# Altium schematic symbol library Flash.SchLib: 7 symbols
Pins are listed as number, name and electrical type; pins without a type are passive.

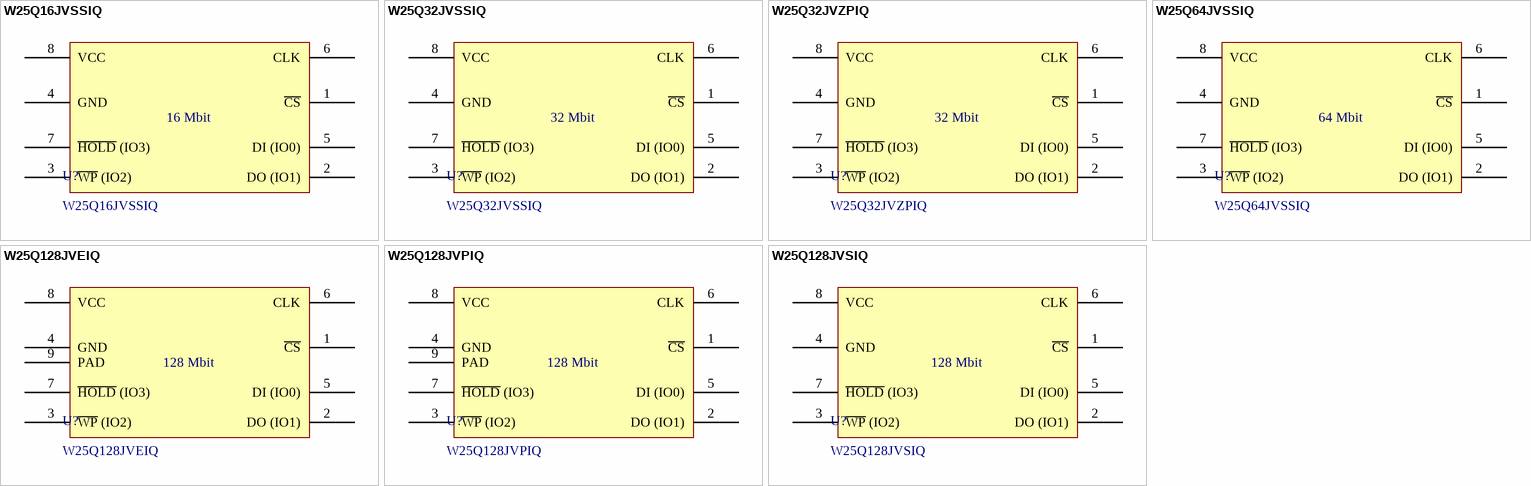
[diagram p0: symbols W25Q16JVSSIQ to W25Q128JVSIQ]

## W25Q16JVSSIQ
designator U?
16Mbit 2.7V~3.6V 133MHz SPI SOIC-8-EP(5x6) Memory (ICs) RoHS; Manufacturer: Winbond Electronics; Active Read Current - Max: 25 mA; Interface Type: SPI - Quad I/O, QPI; Data Bus Width: 8 bit; Supply Voltage - Max: 3.6 V; Supply Voltage - Min: 2.7 V; Organization: 2 M x 8; Memory Size: 16 Mbit; Maximum Clock Frequency: 133 MHz; Supplier 1 URL: https://www.mouser.vn/ProductDetail/Winbond/W25Q16JVSSIQ?qs=qSfuJ%252Bfl%2Fd46L%2F1QrQC%2Fog%3D%3D; Supplier 2 URL: https://www.digikey.com/en/products/detail/winbond-electronics/w25q16jvssiq/6193769; Supplier 3 URL: N/A; Value: W25Q16JVSSIQ; Supplier 1: Mouser; Supplier 1 Part Number: 454-W25Q16JVSSIQ; Supplier 2: Digi-Key; Supplier 2 Part Number: W25Q16JVSSIQ-ND; Supplier 3: thegioiic; Supplier 3 Part Number: N/A; Manufacturer Part Number: W25Q16JVSSIQ; Mount: SMD/SMT; Operating Temperature Max: + 85 C; Operating Temperature Min: - 40 C; Package / Case: SOIC-8; Packaging: Tape and Reel; ComponentLink1Description: Datasheet; ComponentLink1URL: https://www.lcsc.com/datasheet/C131025.pdf; LCSC Part #: C131025
footprint W25QXXJVSIQ-SOIC-8 (SOIC, 8-Leads, Body 5.28x5.28mm, Pitch 1.27mm, IPC Medium Density)
pins: 1 ~{CS}, 2 DO (IO1), 3 ~{WP} (IO2), 4 GND (power), 5 DI (IO0), 6 CLK, 7 ~{HOLD} (IO3), 8 VCC (power)

## W25Q32JVSSIQ
designator U?
32Mbit 2.7V~3.6V 133MHz SPI SOIC-8-EP(5x6) Memory (ICs) RoHS; Manufacturer: Winbond Electronics; Active Read Current - Max: 25 mA; Interface Type: SPI - Quad I/O, QPI; Data Bus Width: 8 bit; Supply Voltage - Max: 3.6 V; Supply Voltage - Min: 2.7 V; Organization: 4 M x 8; Memory Size: 32 Mbit; Maximum Clock Frequency: 133 MHz; Supplier 1 URL: https://www.mouser.vn/ProductDetail/Winbond/W25Q32JVSSIQ?qs=qSfuJ%252Bfl%2Fd4PGZSN0WxfCA%3D%3D; Supplier 2 URL: https://www.digikey.com/en/products/detail/winbond-electronics/w25q32jvssiq/5803981; Supplier 3 URL: N/A; Value: W25Q32JVSSIQ; Supplier 1: Mouser; Supplier 1 Part Number: 454-W25Q32JVSSIQTR; Supplier 2: Digi-Key; Supplier 2 Part Number: W25Q32JVSSIQ-ND; Supplier 3: thegioiic; Supplier 3 Part Number: N/A; Manufacturer Part Number: W25Q32JVSSIQ; Mount: SMD/SMT; Operating Temperature Max: + 85 C; Operating Temperature Min: - 40 C; Package / Case: SOIC-8; Packaging: Tape and Reel; ComponentLink1Description: Datasheet; ComponentLink1URL: https://www.lcsc.com/datasheet/C179173.pdf; LCSC Part #: C179173
footprint W25QXXJVSIQ-SOIC-8 (SOIC, 8-Leads, Body 5.28x5.28mm, Pitch 1.27mm, IPC Medium Density)
pins: 1 ~{CS}, 2 DO (IO1), 3 ~{WP} (IO2), 4 GND (power), 5 DI (IO0), 6 CLK, 7 ~{HOLD} (IO3), 8 VCC (power)

## W25Q32JVZPIQ
designator U?
32Mbit 2.7V~3.6V 133MHz SPI WSON-8-EP(5x6) Memory (ICs) RoHS; Manufacturer: Winbond Electronics; Active Read Current - Max: 25 mA; Interface Type: SPI - Quad I/O, QPI; Data Bus Width: 8 bit; Supply Voltage - Max: 3.6 V; Supply Voltage - Min: 2.7 V; Organization: 4 M x 8; Memory Size: 32 Mbit; Maximum Clock Frequency: 133 MHz; Supplier 1 URL: https://www.mouser.vn/ProductDetail/Winbond/W25Q32JVZPIQ?qs=qSfuJ%252Bfl%2Fd5Ca0jgzBVqQA%3D%3D; Supplier 2 URL: https://www.digikey.com/en/products/detail/winbond-electronics/w25q32jvzpiq/6167525; Supplier 3 URL: N/A; Value: W25Q32JVZPIQ; Supplier 1: Mouser; Supplier 1 Part Number: 454-W25Q32JVZPIQ; Supplier 2: Digi-Key; Supplier 2 Part Number: W25Q32JVZPIQ-ND; Supplier 3: thegioiic; Supplier 3 Part Number: N/A; Manufacturer Part Number: W25Q32JVZPIQ; Mount: SMD/SMT; Operating Temperature Max: + 85 C; Operating Temperature Min: - 40 C; Package / Case: WSON-8; Packaging: Tape and Reel; ComponentLink1Description: Datasheet; ComponentLink1URL: https://www.lcsc.com/datasheet/C571260.pdf; LCSC Part #: C571260
footprint W25QXXJVPIQ-WSON-8 (SON, 8-Leads, Body 6.00x8.00mm, Pitch 1.27mm, Thermal Pad 4.30x3.40mm, IPC Medium Density)
pins: 1 ~{CS}, 2 DO (IO1), 3 ~{WP} (IO2), 4 GND (power), 5 DI (IO0), 6 CLK, 7 ~{HOLD} (IO3), 8 VCC (power)

## W25Q64JVSSIQ
designator U?
64Mbit 2.7V~3.6V 133MHz SPI SOIC-8-EP(5x6) Memory (ICs) RoHS; Manufacturer: Winbond Electronics; Active Read Current - Max: 25 mA; Interface Type: SPI - Quad I/O, QPI; Data Bus Width: 8 bit; Supply Voltage - Max: 3.6 V; Supply Voltage - Min: 2.7 V; Organization: 8 M x 8; Memory Size: 64 Mbit; Maximum Clock Frequency: 133 MHz; Supplier 1 URL: https://www.mouser.vn/ProductDetail/Winbond/W25Q64JVSSIQ?qs=qSfuJ%252Bfl%2Fd4DecxlHDmB8w%3D%3D; Supplier 2 URL: https://www.digikey.com/en/products/detail/winbond-electronics/w25q64jvssiq/5803992; Supplier 3 URL: N/A; Value: W25Q64JVSSIQ; Supplier 1: Mouser; Supplier 1 Part Number: 454-W25Q64JVSIQ; Supplier 2: Digi-Key; Supplier 2 Part Number: W25Q64JVSSIQ-ND; Supplier 3: thegioiic; Supplier 3 Part Number: N/A; Manufacturer Part Number: W25Q64JVSSIQ; Mount: SMD/SMT; Operating Temperature Max: + 85 C; Operating Temperature Min: - 40 C; Package / Case: SOIC-8; Packaging: Tape and Reel; ComponentLink1Description: Datasheet; ComponentLink1URL: https://www.lcsc.com/datasheet/C179171.pdf; LCSC Part #: C179171
footprint W25QXXJVSIQ-SOIC-8 (SOIC, 8-Leads, Body 5.28x5.28mm, Pitch 1.27mm, IPC Medium Density)
pins: 1 ~{CS}, 2 DO (IO1), 3 ~{WP} (IO2), 4 GND (power), 5 DI (IO0), 6 CLK, 7 ~{HOLD} (IO3), 8 VCC (power)

## W25Q128JVEIQ
designator U?
128Mbit 2.7V~3.6V 133MHz SPI WSON-8-EP(6x8) Memory (ICs) RoHS; Manufacturer: Winbond Electronics; Active Read Current - Max: 25 mA; Interface Type: SPI - Quad I/O, QPI; Data Bus Width: 8 bit; Supply Voltage - Max: 3.6 V; Supply Voltage - Min: 2.7 V; Organization: 16 M x 8; Memory Size: 128 Mbit; Maximum Clock Frequency: 133 MHz; Supplier 1 URL: https://www.mouser.com/ProductDetail/Winbond/W25Q128JVEIQ?qs=qSfuJ%252Bfl%2Fd667JrLNi7hwg%3D%3D; Supplier 2 URL: https://www.digikey.com/en/products/detail/winbond-electronics/w25q128jveiq/6819667; Supplier 3 URL: N/A; Value: W25Q128JVEIQ; Supplier 1: Mouser; Supplier 1 Part Number: 454-W25Q128JVEIQ; Supplier 2: Digi-Key; Supplier 2 Part Number: 256-W25Q128JVEIQ-TUBE-ND; Supplier 3: thegioiic; Supplier 3 Part Number: N/A; Manufacturer Part Number: W25Q128JVEIQ; Mount: SMD/SMT; Operating Temperature Max: + 85 C; Operating Temperature Min: - 40 C; Package / Case: WSON-8 (6x8); Packaging: Tape and Reel; ComponentLink1Description: Datasheet; ComponentLink1URL: https://www.lcsc.com/datasheet/C2456297.pdf; LCSC Part #: C2456297
footprint W25QXXJVEIQ-WSON-8 (SON, 8-Leads, Body 6.00x8.00mm, Pitch 1.27mm, Thermal Pad 4.30x3.40mm, IPC Medium Density)
pins: 1 ~{CS}, 2 DO (IO1), 3 ~{WP} (IO2), 4 GND (power), 5 DI (IO0), 6 CLK, 7 ~{HOLD} (IO3), 8 VCC (power), 9 PAD (power)

## W25Q128JVPIQ
designator U?
128Mbit 2.7V~3.6V 133MHz SPI WSON-8-EP(5x6) Memory (ICs) RoHS; Manufacturer: Winbond Electronics; Active Read Current - Max: 25 mA; Interface Type: SPI - Quad I/O, QPI; Data Bus Width: 8 bit; Supply Voltage - Max: 3.6 V; Supply Voltage - Min: 2.7 V; Organization: 16 M x 8; Memory Size: 128 Mbit; Maximum Clock Frequency: 133 MHz; Supplier 1 URL: https://www.mouser.vn/ProductDetail/Winbond/W25Q128JVPIQ?qs=qSfuJ%252Bfl%2Fd676hAD%252B1JSfw%3D%3D; Supplier 2 URL: https://www.digikey.com/en/products/detail/winbond-electronics/w25q128jvpiq/6819668; Supplier 3 URL: N/A; Value: W25Q128JVPIQ; Supplier 1: Mouser; Supplier 1 Part Number: 454-W25Q128JVPIQ; Supplier 2: Digi-Key; Supplier 2 Part Number: W25Q128JVPIQ-ND; Supplier 3: thegioiic; Supplier 3 Part Number: N/A; Manufacturer Part Number: W25Q128JVPIQ; Mount: SMD/SMT; Operating Temperature Max: + 85 C; Operating Temperature Min: - 40 C; Package / Case: WSON-8 (5x6); Packaging: Tape and Reel; ComponentLink1Description: Datasheet; ComponentLink1URL: https://www.lcsc.com/datasheet/C190862.pdf; LCSC Part #: C190862
footprint W25QXXJVPIQ-WSON-8 (SON, 8-Leads, Body 5.00x6.00mm, Pitch 1.27mm, Thermal Pad 4.30x3.40mm, IPC Medium Density)
pins: 1 ~{CS}, 2 DO (IO1), 3 ~{WP} (IO2), 4 GND (power), 5 DI (IO0), 6 CLK, 7 ~{HOLD} (IO3), 8 VCC (power), 9 PAD (power)

## W25Q128JVSIQ
designator U?
128Mbit 2.7V~3.6V 133MHz SPI SOIC-8-EP(5x6) Memory (ICs) RoHS; Manufacturer: Winbond Electronics; Active Read Current - Max: 25 mA; Interface Type: SPI - Quad I/O, QPI; Data Bus Width: 8 bit; Supply Voltage - Max: 3.6 V; Supply Voltage - Min: 2.7 V; Organization: 16 M x 8; Memory Size: 128 Mbit; Maximum Clock Frequency: 133 MHz; Supplier 1 URL: https://www.mouser.vn/ProductDetail/Winbond/W25Q128JVSIQ?qs=qSfuJ%252Bfl%2Fd6tLXvPR4fl9w%3D%3D; Supplier 2 URL: https://www.digikey.com/en/products/detail/winbond-electronics/w25q128jvsiq/5803943; Supplier 3 URL: N/A; Value: W25Q128JVSIQ; Supplier 1: Mouser; Supplier 1 Part Number: 454-W25Q128JVSIQ; Supplier 2: Digi-Key; Supplier 2 Part Number: W25Q128JVSIQ-ND; Supplier 3: thegioiic; Supplier 3 Part Number: N/A; Manufacturer Part Number: W25Q128JVSIQ; Mount: SMD/SMT; Operating Temperature Max: + 85 C; Operating Temperature Min: - 40 C; Package / Case: SOIC-8; Packaging: Tape and Reel; ComponentLink1Description: Datasheet; ComponentLink1URL: https://www.lcsc.com/datasheet/C97521.pdf; LCSC Part #: C97521
footprint W25QXXJVSIQ-SOIC-8 (SOIC, 8-Leads, Body 5.28x5.28mm, Pitch 1.27mm, IPC Medium Density)
pins: 1 ~{CS}, 2 DO (IO1), 3 ~{WP} (IO2), 4 GND (power), 5 DI (IO0), 6 CLK, 7 ~{HOLD} (IO3), 8 VCC (power)